# EAGLE library part 690357282276 (library WR-MM)
WR-MM Male SMT Connector w/o Latch & w/o Polarization Material Properties Insulator Material PBT Insulator Flammability Rating UL94 V-0 Insulator Color Red Contact Material Phosphor Bronze Contact Plating Matte Tin over Nickel Contact Type Stamped Packaging Properties cULus Approval E323964 Packaging Tape and Reel General Information Operating Temperature -40 °C up to +105 °C Pitch 2.54 mm Gender Male Electrical Properties Working Voltage 250 V (AC) Withstanding Voltage 500 V (AC) Contact Resistance 10 mΩ RISO 1000 MΩ <https://www.we-online.com/components/media/o33158v209%20Family-WR-MM-69035728xx76.jpg> Details see: www.we-online.com/en/components/products/MM_1_27_SMT_MALE_CONNECTOR_W_O_LATCH_AND_POLARIZATION_69035728XX76 <www.we-online.com/catalog/MM_1_27_SMT_MALE_CONNECTOR_W_O_LATCH_AND_POLARIZATION_69035728XX76/?utm_source=eagle_model&utm_medium=description_link&utm_campaign=eisos_eagle> Updated by Ella 2025-02-28 2025 (C) Würth Elektronik
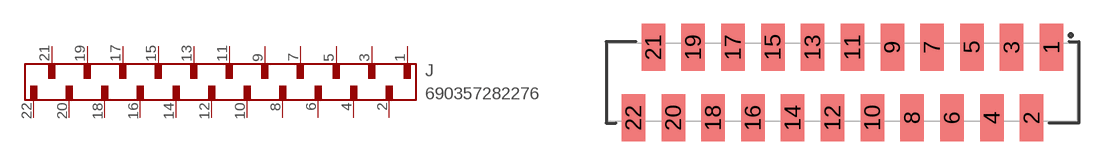
[diagram p1: symbol with the pads of 690357282276; footprint 690357282276]

Designator prefix J

## 690357282276 (DATASHEET-URL: https://www.we-online.com/redexpert/spec/690357282276?ae; GENDER: Male; IR: 1.5A; PACKAGING: Tape and Reel; PART-NUMBER: 690357282276; PINS: 22; PITCH: 2.54; TYPE: Straight; VALUE: 690357282276)  [690357282276]
1  1  pas
2  2  pas
3  3  pas
4  4  pas
5  5  pas
6  6  pas
7  7  pas
8  8  pas
9  9  pas
10  10  pas
11  11  pas
12  12  pas
13  13  pas
14  14  pas
15  15  pas
16  16  pas
17  17  pas
18  18  pas
19  19  pas
20  20  pas
21  21  pas
22  22  pas

## Footprint 690357282276 (pad centres in mm)
WR-MM Male SMT Connector w/o Latch & w/o Polarization, 22 pins
smd 1.5 x 3: 1 13.335,2.25; 2 12.065,-2.25; 3 10.795,2.25; 4 9.525,-2.25; 5 8.255,2.25; 6 6.985,-2.25; 7 5.715,2.25; 8 4.445,-2.25; 9 3.175,2.25; 10 1.905,-2.25; 11 0.635,2.25; 12 -0.635,-2.25; 13 -1.905,2.25; 14 -3.175,-2.25; 15 -4.445,2.25; 16 -5.715,-2.25; 17 -6.985,2.25; 18 -8.255,-2.25; 19 -9.525,2.25; 20 -10.795,-2.25; 21 -12.065,2.25; 22 -13.335,-2.25